# EAGLE library part LIS3MDL (library igorsales)
Compass IC http://www.st.com/web/en/resource/technical/document/datasheet/DM00075867.pdf
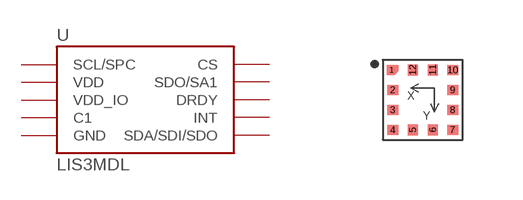
[diagram p6: symbol with the pads of VFLGA-2X2X1-12LD; footprint VFLGA-2X2X1-12LD]

Designator prefix -

## LIS3MDL  [VFLGA-2X2X1-12LD]
1  SCL/SPC  in
2  GND  pwr
3  GND  pwr
4  C1  pwr
5  VDD  pwr
6  VDD_IO  pwr
7  INT  out
8  DRDY  out
9  SDO/SA1  out
10  CS  in
11  SDA/SDI/SDO
12  GND  pwr

## Footprint VFLGA-2X2X1-12LD (pad centres in mm)
VFLGA 2x2x1 12LD pitch 0.5 mm
smd 0.2 x 0.2: 1 -0.775,0.75
smd 0.275 x 0.25: 2 -0.75,0.25; 3 -0.75,-0.25; 4 -0.75,-0.75; 7 0.75,-0.75; 8 0.75,-0.25; 9 0.75,0.25; 10 0.75,0.75
smd 0.25 x 0.275: 5 -0.25,-0.75; 6 0.25,-0.75; 11 0.25,0.75; 12 -0.25,0.75